# EAGLE library part 615032149521 (library 615008185221_Eagle_WR-MJ_rev20b)
WR-MJ Modular Jack Horizontal Plastic 8P8C Assembly Tab Up KIND PROPERTIES Quality Class:500 Mating cycles General Information Operating Temperature:-40 up to +85 °C Compliance: RoHS Electrical Properties IR 1:1.5A Working Voltage:120V (AC) Withstanding Voltage:1000V (AC) Contact Resistance:20mΩ RISO:500 MΩ Material Properties Insulator MateriaL:PBT Insulator Flammability Rating:UL94 V-0 Color:Black Contact Material Copper Alloy Contact Plating:Gold Contact Type:Stamped Shielding Material:Brass Shielding Plating:Nickel Packaging Properties Packaging:Tray <https://www.we-online.com/catalog/media/o64597v209%20Family_Con_WR-MJ_Horizontal_Plastic_6150xx149521_pf2.jpg> Details see: https://www.we-online.com/catalog/en/MJ_HORIZONTAL_PLASTIC_ASSEMBLY_8P8C_TAB_UP/? Updated by Yingchun,Shan 2020-01-06 2020 (C) Würth Elektronik
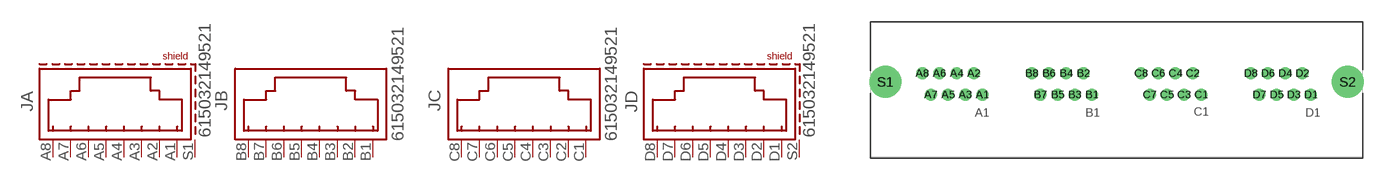
[diagram p4: symbol with the pads of 615032149521; footprint 615032149521]

Designator prefix J; gates A=8P8C_S D=8P8C_S B=8P8C_2 C=8P8C_2

## 615032149521 (DATASHEET-URL: https://www.we-online.com/catalog/datasheet/615032149521.pdf; MOUNT: THT; PART-NUMBER: 615032149521; TYPE: Horizontal; VALUE: 615032149521; XPXC: 8P8C)  [615032149521]
A1  A:1  pas
A2  A:2  pas
A3  A:3  pas
A4  A:4  pas
A5  A:5  pas
A6  A:6  pas
A7  A:7  pas
A8  A:8  pas
B1  B:1  pas
B2  B:2  pas
B3  B:3  pas
B4  B:4  pas
B5  B:5  pas
B6  B:6  pas
B7  B:7  pas
B8  B:8  pas
C1  C:1  pas
C2  C:2  pas
C3  C:3  pas
C4  C:4  pas
C5  C:5  pas
C6  C:6  pas
C7  C:7  pas
C8  C:8  pas
D1  D:1  pas
D2  D:2  pas
D3  D:3  pas
D4  D:4  pas
D5  D:5  pas
D6  D:6  pas
D7  D:7  pas
D8  D:8  pas
S1  A:SHIELD  pas
S2  D:SHIELD  pas

## Footprint 615032149521 (pad centres in mm)
WR-MJ Modular Jack Horizontal Plastic 8P8C Assembly Tab Up
drill 0.9: A1 -15.93,-0.57; A2 -16.95,1.97; A3 -17.97,-0.57; A4 -18.99,1.97; A5 -20.01,-0.57; A6 -21.03,1.97; A7 -22.05,-0.57; A8 -23.07,1.97; B1 -2.93,-0.57; B2 -3.95,1.97; B3 -4.97,-0.57; B4 -5.99,1.97; B5 -7.01,-0.57; B6 -8.03,1.97; B7 -9.05,-0.57; B8 -10.07,1.97; C1 10.05,-0.57; C2 9.03,1.97; C3 8.01,-0.57; C4 6.99,1.97; C5 5.97,-0.57; C6 4.95,1.97; C7 3.93,-0.57; C8 2.91,1.97; D1 23.07,-0.57; D2 22.05,1.97; D3 21.03,-0.57; D4 20.01,1.97; D5 18.99,-0.57; D6 17.97,1.97; D7 16.95,-0.57; D8 15.93,1.97
drill 2.8: S1 -27.45,0.97; S2 27.45,0.97